# Altium schematic symbol library Power-BMIC-PW4584.SchLib: 1 symbol
Pins are listed as number, name and electrical type; pins without a type are passive.

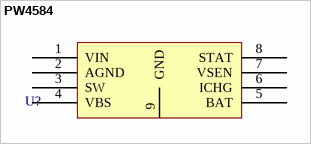
[diagram p0: symbol PW4584]

## PW4584
designator U?
pins: 1 VIN, 2 AGND, 3 SW, 4 VBS, 5 BAT, 6 ICHG, 7 VSEN, 8 STAT, 9 GND